# Altium footprint library Cry_HC49_S.PcbLib: 1 footprints
Each footprint in its own frame and in the unit in brackets; x right, y up, seen from the top. Pads: shape width x height; smd on the part's side, far side on the other; paste and mask are expansions set on the pad; w line width, h text height; cw(c..) or ccw(c..) is an arc to the next point about the centre after c.
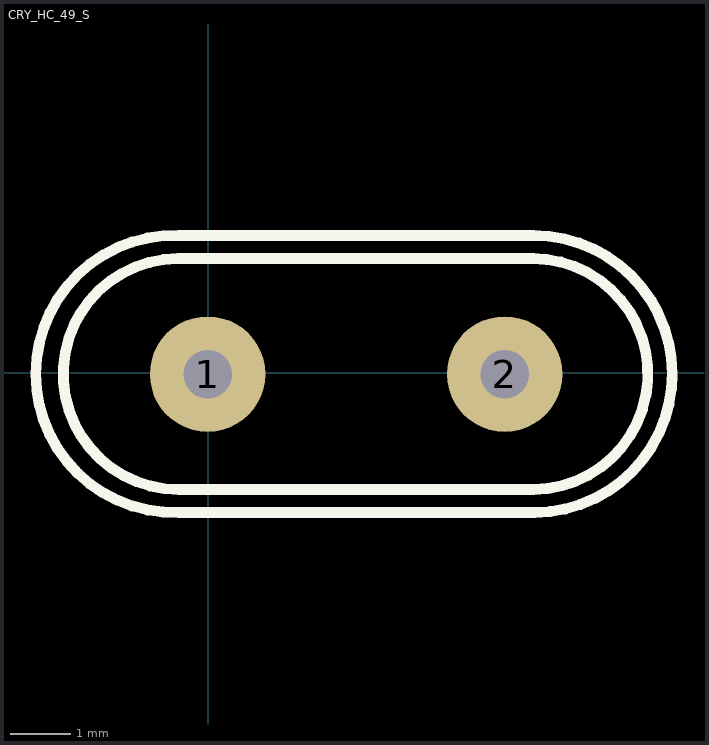
[diagram p0: the footprint, top view; thin cyan lines are the x and y axes]

## CRY_HC_49_S [mm]
pads (2):
  round 1.905 hole 0.8: 1(-0.008,-0.023) 2(4.892,-0.023)
Top Overlay:
  lines w0.178: -0.498,1.882 ccw(c-0.485,-0.023) -0.479,-1.928 5.363,-1.928 ccw(c5.35,-0.023) 5.344,1.882 ; -0.48,-2.306 cw(c-0.556,-0.022) -0.479,2.263 5.363,2.263 cw(c5.37,-0.023) 5.385,-2.309 ; -0.479,-2.309 5.363,-2.309 ; -0.479,1.882 5.363,1.882
3D body "SW3dPS-HP49US.STEP": height 3.5, standoff -4, extent -3.233,-2.387 8.117,2.263